# Altium footprint library DIODE_SMA(DO-214AC).PcbLib: 1 footprints
Each footprint in its own frame and in the unit in brackets; x right, y up, seen from the top. Pads: shape width x height; smd on the part's side, far side on the other; paste and mask are expansions set on the pad; w line width, h text height; cw(c..) or ccw(c..) is an arc to the next point about the centre after c.
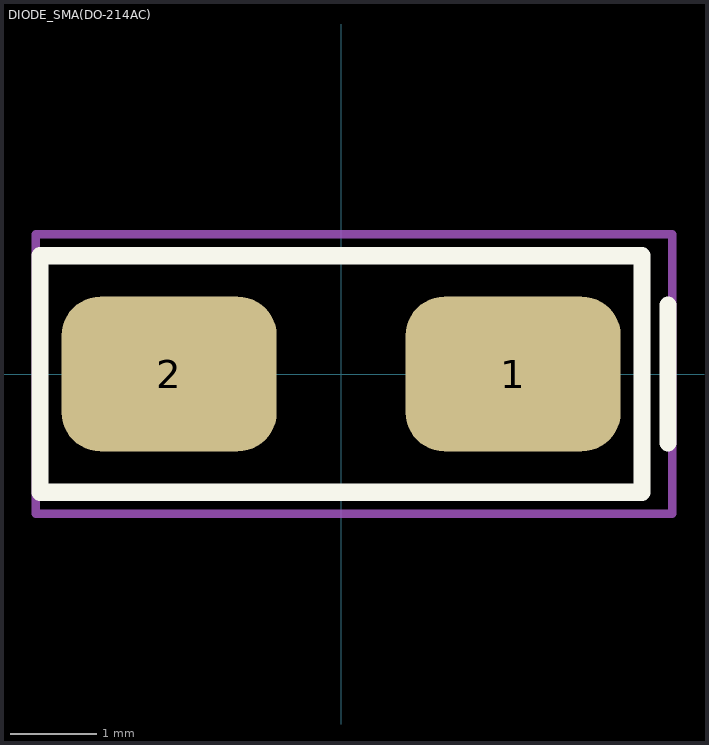
[diagram p0: the footprint, top view; thin cyan lines are the x and y axes]

## DIODE_SMA(DO-214AC) [mm]
pads (2):
  rrect50% 2.5x1.8 smd: 1(2,0) 2(-2,0)
Top Overlay:
  lines w0.2: 3.8,-0.8 3.8,0.8 ; -3.5,-1.375 3.5,-1.375 3.5,1.375 -3.5,1.375 -3.5,-1.375
Top Courtyard:
  lines w0.1: -3.55,-1.625 -3.55,1.625 3.85,1.625 3.85,-1.625 -3.55,-1.625
3D body "SMA.STEP": height 2.4, standoff 0, extent -2.6,-1.375 2.6,1.375